# Altium schematic symbol library SKY12348-350LF.SchLib: 2 symbols
Pins are listed as number, name and electrical type; pins without a type are passive.

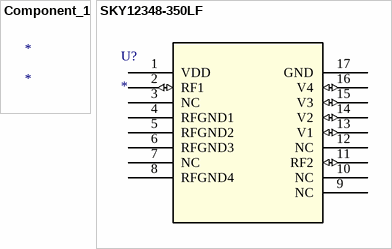
[diagram p0: symbols Component_1 to SKY12348-350LF]

## Component_1
designator *

## SKY12348-350LF
designator U?
No Description Available; Mfr_Name: Skyworks; RefDes: RefDes; Type: Type
footprint SKY12348-350LF_SKY
pins: 1 VDD (power), 2 RF1 (io), 3 NC, 4 RFGND1 (power), 5 RFGND2 (power), 6 RFGND3 (power), 7 NC, 8 RFGND4 (power), 9 NC, 10 NC, 11 RF2 (io), 12 NC, 13 V1 (io), 14 V2 (io), 15 V3 (io), 16 V4 (io), 17 GND (power)